# Altium footprint library IC-SMD.PCBLIB: 298 footprints (part 3 of 19)
Each footprint in its own frame and in the unit in brackets; x right, y up, seen from the top. Pads: shape width x height; smd on the part's side, far side on the other; paste and mask are expansions set on the pad; w line width, h text height; cw(c..) or ccw(c..) is an arc to the next point about the centre after c.
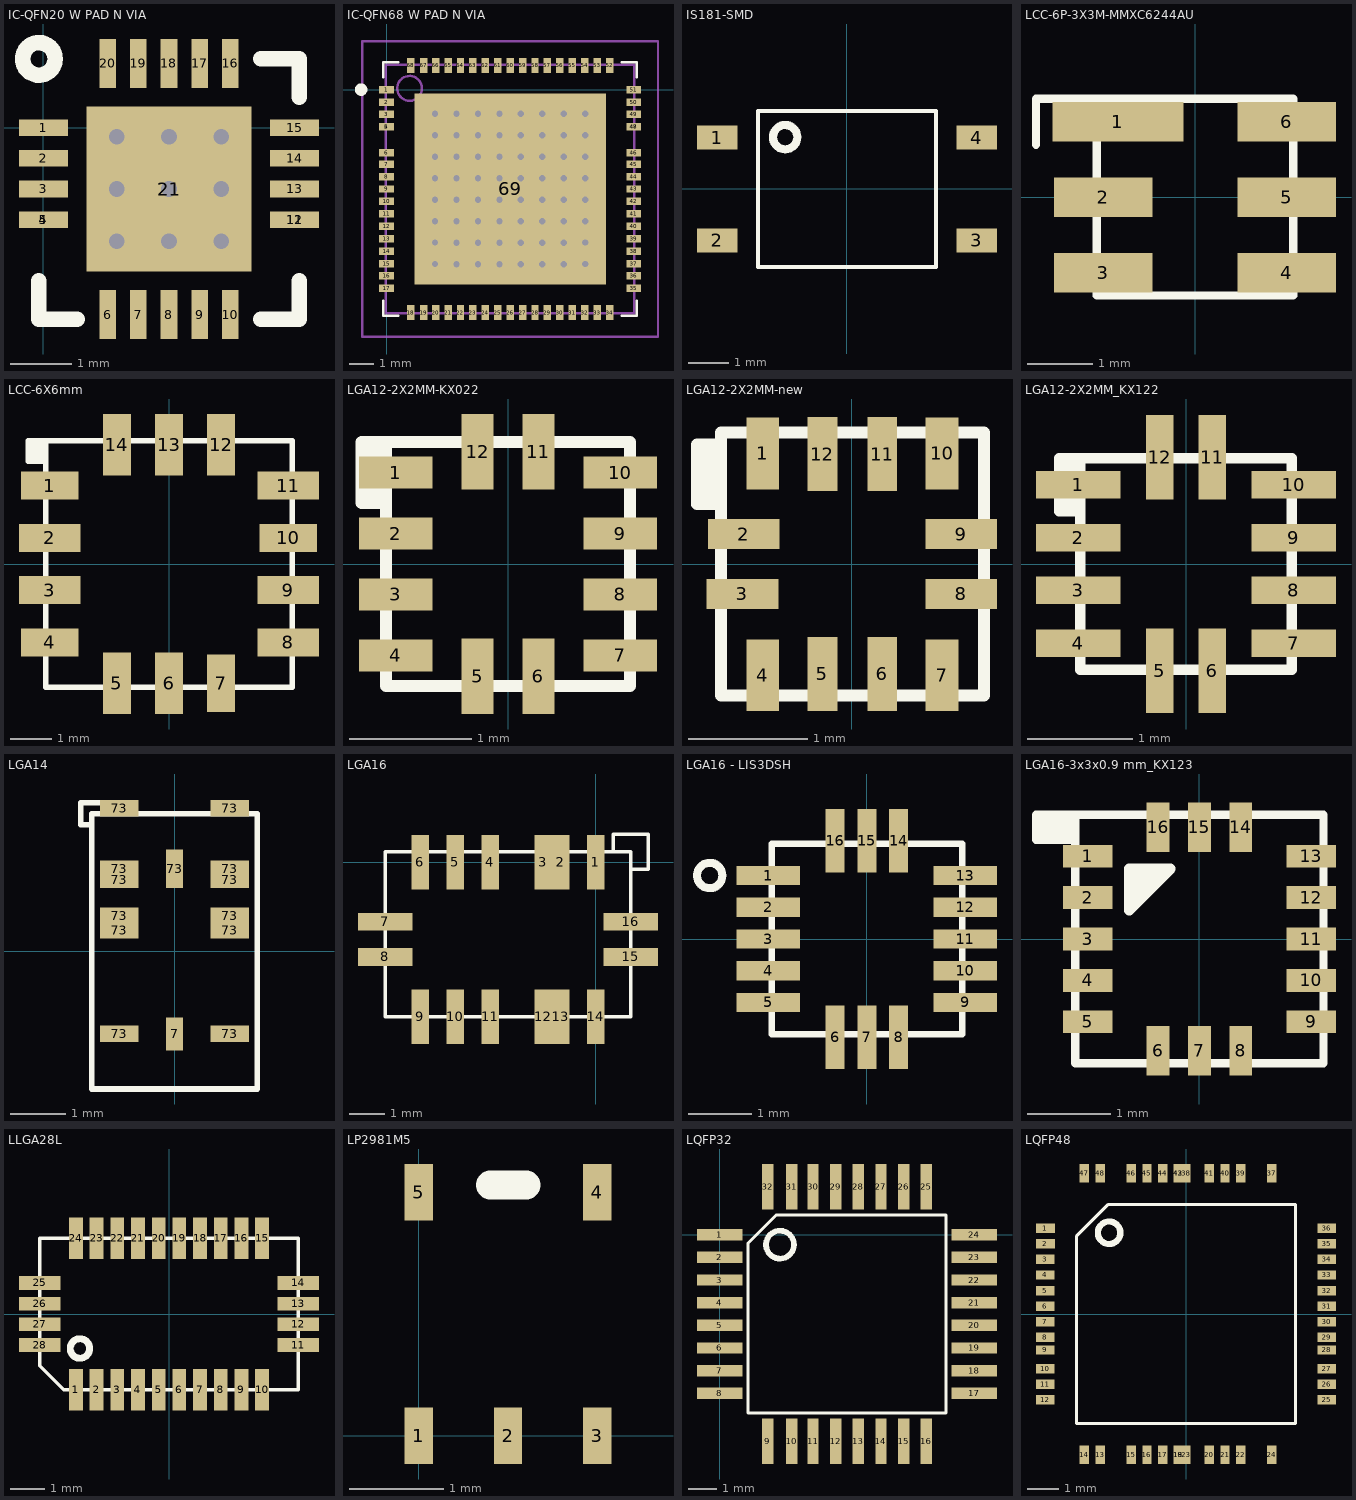
[diagram p2: the footprints below, top view; thin cyan lines are the x and y axes]

## IC-QFN20 W PAD N VIA [mm]
pads (21):
  rect 0.8x0.27 smd: 1(0,0) 2(0,-0.5) 3(0,-1) 4(0,-1.5) 5(0,-1.5) 11(4.1,-1.5) 12(4.1,-1.5) 13(4.1,-1) 14(4.1,-0.5) 15(4.1,0)
  rect 0.27x0.8 smd: 6(1.05,-3.05) 7(1.55,-3.05) 8(2.05,-3.05) 9(2.55,-3.05) 10(3.05,-3.05) 16(3.05,1.05) 17(2.55,1.05) 18(2.05,1.05) 19(1.55,1.05) 20(1.05,1.05)
  rect 2.7x2.7 smd: 21(2.05,-1)
via 2.9,-1.85 diameter 0.508 hole 0.254
via 2.05,-1.85 diameter 0.508 hole 0.254
via 1.2,-1.85 diameter 0.508 hole 0.254
via 2.9,-1 diameter 0.508 hole 0.254
via 2.05,-1 diameter 0.508 hole 0.254
via 1.2,-1 diameter 0.508 hole 0.254
via 2.9,-0.15 diameter 0.508 hole 0.254
via 2.05,-0.15 diameter 0.508 hole 0.254
via 1.2,-0.15 diameter 0.508 hole 0.254
TopOverlay:
  circle w0.254: c-0.075,1.125 r0.266
  lines w0.254: -0.075,-2.5 -0.075,-3.125 0.55,-3.125 ; 3.55,-3.125 4.175,-3.125 4.175,-2.5 ; 3.55,1.125 4.175,1.125 4.175,0.5

## IC-QFN68 W PAD N VIA [mm]
pads (69):
  rect 0.6x0.3 smd: 1(0,0) 2(0,-0.5) 3(0,-1) 4(0,-1.5) 5(0,-1.5) 6(0,-2.55) 7(0,-3) 8(0,-3.5) 9(0,-4) 10(0,-4.5) 11(0,-5) 12(0,-5.5) 13(0,-6) 14(0,-6.5) 15(0,-7) 16(0,-7.5) 17(0,-8) 35(9.95,-8) 36(9.95,-7.5) 37(9.95,-7) 38(9.95,-6.5) 39(9.95,-6) 40(9.95,-5.5) 41(9.95,-5) 42(9.95,-4.5) 43(9.95,-4) 44(9.95,-3.5) 45(9.95,-3) 46(9.95,-2.55) 47(9.95,-1.5) 48(9.95,-1.5) 49(9.95,-1) 50(9.95,-0.5) 51(9.95,0)
  rect 0.3x0.6 smd: 18(0.975,-8.975) 19(1.5,-8.975) 20(1.975,-8.975) 21(2.475,-8.975) 22(2.975,-8.975) 23(3.475,-8.975) 24(3.975,-8.975) 25(4.475,-8.975) 26(4.975,-8.975) 27(5.475,-8.975) 28(5.975,-8.975) 29(6.475,-8.975) 30(6.975,-8.975) 31(7.475,-8.975) 32(7.975,-8.975) 33(8.475,-8.975) 34(8.975,-8.975) 52(8.975,0.975) 53(8.475,0.975) 54(7.975,0.975) 55(7.475,0.975) 56(6.975,0.975) 57(6.475,0.975) 58(5.975,0.975) 59(5.475,0.975) 60(4.975,0.975) 61(4.475,0.975) 62(3.975,0.975) 63(3.475,0.975) 64(2.975,0.975) 65(2.475,0.975) 66(1.975,0.975) 67(1.5,0.975) 68(0.975,0.975)
  rect 7.7x7.7 smd: 69(4.975,-4)
via 8,-4.429 diameter 0.508 hole 0.254
via 7.134,-4.432 diameter 0.508 hole 0.254
via 6.27,-4.432 diameter 0.508 hole 0.254
via 5.407,-4.432 diameter 0.508 hole 0.254
via 3.68,-4.432 diameter 0.508 hole 0.254
via 2.816,-4.432 diameter 0.508 hole 0.254
via 1.95,-4.429 diameter 0.508 hole 0.254
via 4.543,-4.432 diameter 0.508 hole 0.254
via 4.543,-5.295 diameter 0.508 hole 0.254
via 1.95,-5.293 diameter 0.508 hole 0.254
via 2.816,-5.295 diameter 0.508 hole 0.254
via 3.68,-5.295 diameter 0.508 hole 0.254
via 5.407,-5.295 diameter 0.508 hole 0.254
via 6.27,-5.295 diameter 0.508 hole 0.254
via 7.134,-5.295 diameter 0.508 hole 0.254
via 8,-5.293 diameter 0.508 hole 0.254
via 8,-7.02 diameter 0.508 hole 0.254
via 7.134,-7.023 diameter 0.508 hole 0.254
via 6.27,-7.023 diameter 0.508 hole 0.254
via 5.407,-7.023 diameter 0.508 hole 0.254
via 3.68,-7.023 diameter 0.508 hole 0.254
via 2.816,-7.023 diameter 0.508 hole 0.254
via 1.95,-7.02 diameter 0.508 hole 0.254
via 4.543,-7.023 diameter 0.508 hole 0.254
via 4.543,-6.159 diameter 0.508 hole 0.254
via 1.95,-6.156 diameter 0.508 hole 0.254
via 2.816,-6.159 diameter 0.508 hole 0.254
via 3.68,-6.159 diameter 0.508 hole 0.254
via 5.407,-6.159 diameter 0.508 hole 0.254
via 6.27,-6.159 diameter 0.508 hole 0.254
via 7.134,-6.159 diameter 0.508 hole 0.254
via 8,-6.156 diameter 0.508 hole 0.254
via 8,-2.702 diameter 0.508 hole 0.254
via 7.134,-2.705 diameter 0.508 hole 0.254
via 6.27,-2.705 diameter 0.508 hole 0.254
via 5.407,-2.705 diameter 0.508 hole 0.254
via 3.68,-2.705 diameter 0.508 hole 0.254
via 2.816,-2.705 diameter 0.508 hole 0.254
via 1.95,-2.702 diameter 0.508 hole 0.254
via 4.543,-2.705 diameter 0.508 hole 0.254
via 4.543,-3.568 diameter 0.508 hole 0.254
via 1.95,-3.565 diameter 0.508 hole 0.254
via 2.816,-3.568 diameter 0.508 hole 0.254
via 3.68,-3.568 diameter 0.508 hole 0.254
via 5.407,-3.568 diameter 0.508 hole 0.254
via 6.27,-3.568 diameter 0.508 hole 0.254
via 7.134,-3.568 diameter 0.508 hole 0.254
via 8,-3.565 diameter 0.508 hole 0.254
via 8,-1.838 diameter 0.508 hole 0.254
via 7.134,-1.841 diameter 0.508 hole 0.254
via 6.27,-1.841 diameter 0.508 hole 0.254
via 5.407,-1.841 diameter 0.508 hole 0.254
via 3.68,-1.841 diameter 0.508 hole 0.254
via 2.816,-1.841 diameter 0.508 hole 0.254
via 1.95,-1.838 diameter 0.508 hole 0.254
via 4.543,-1.841 diameter 0.508 hole 0.254
via 4.543,-0.977 diameter 0.508 hole 0.254
via 1.95,-0.975 diameter 0.508 hole 0.254
via 2.816,-0.977 diameter 0.508 hole 0.254
via 3.68,-0.977 diameter 0.508 hole 0.254
via 5.407,-0.977 diameter 0.508 hole 0.254
via 6.27,-0.977 diameter 0.508 hole 0.254
via 7.134,-0.977 diameter 0.508 hole 0.254
via 8,-0.975 diameter 0.508 hole 0.254
TopOverlay:
  circle w0.25: c-1.025,0 r0.125
  lines w0.1: -0.125,-8.5 -0.125,-9.1 0.475,-9.1 ; -0.125,0.5 -0.125,1.1 0.475,1.1 ; 9.475,-9.1 10.075,-9.1 10.075,-8.5 ; 9.475,1.1 10.075,1.1 10.075,0.5
TopPaste:
  rectangle: 5.112,-3.862 6.762,-2.213
  rectangle: 5.112,-1.937 6.762,-0.288
  rectangle: 7.037,-3.862 8.687,-2.213
  rectangle: 7.037,-1.937 8.687,-0.288
  rectangle: 3.187,-1.937 4.837,-0.288
  rectangle: 3.187,-3.862 4.837,-2.213
  rectangle: 1.262,-1.937 2.912,-0.288
  rectangle: 1.262,-3.862 2.912,-2.213
  rectangle: 1.262,-7.712 2.912,-6.062
  rectangle: 1.262,-5.787 2.912,-4.137
  rectangle: 3.187,-7.712 4.837,-6.062
  rectangle: 3.187,-5.787 4.837,-4.137
  rectangle: 7.037,-5.787 8.687,-4.137
  rectangle: 7.037,-7.712 8.687,-6.062
  rectangle: 5.112,-5.787 6.762,-4.137
  rectangle: 5.112,-7.712 6.762,-6.062
Mechanical13:
  circle w0.1: c0.925,0.05 r0.5
  lines w0.1: -0.025,-9 -0.025,1 9.975,1 9.975,-9 -0.025,-9
Mechanical15:
  lines w0.1: 4.475,-4 5.475,-4 ; 4.975,-4.5 4.975,-3.5 ; -0.975,-9.95 -0.975,1.95 10.925,1.95 10.925,-9.95 -0.975,-9.95

## IS181-SMD [mm] "IS181-SMD"
pads (4):
  rect 1x0.6 smd: 1(-3.2,1.27) 2(-3.2,-1.27) 3(3.2,-1.27) 4(3.2,1.27)
TopOverlay:
  lines w0.1: -2.2,-1.925 -2.2,1.925 2.2,1.925 2.2,-1.925 -2.2,-1.925
  lines w0.2: -1.825,1.275 ccw(c-1.525,1.279) -1.825,1.283

## LCC-6P-3X3M-MMXC6244AU [mm] "LCC-6P-3X3M-MMXC6244AU"
pads (6):
  rect 2x0.6 smd mask+0.05: 1(-1.175,1.15)
  rect 1.5x0.6 smd mask+0.05: 2(-1.4,0) 3(-1.4,-1.15) 4(1.4,-1.15) 5(1.4,0) 6(1.4,1.15)
TopOverlay:
  lines w0.127: -2.425,0.8 -2.425,1.5 -1.5,1.5 ; -1.5,1.5 -1.5,-1.5 1.5,-1.5 1.5,1.5 -1.5,1.5

## LCC-6X6mm [mm] "LCC-6X6mm"
pads (14):
  rect 1.4x0.68 smd: 1(-2.9,1.905) 4(-2.9,-1.905) 10(2.9,0.635)
  rect 1.5x0.68 smd: 2(-2.9,0.635) 3(-2.9,-0.635) 8(2.9,-1.905) 9(2.9,-0.635) 11(2.9,1.905)
  rect 0.68x1.5 smd: 5(-1.27,-2.9) 6(0,-2.9) 12(1.27,2.9) 13(0,2.9) 14(-1.27,2.9)
  rect 0.68x1.4 smd: 7(1.27,-2.9)
TopOverlay:
  rectangle: -3.4,2.5 -3.2,3
  rectangle: -3.175,2.5 -2.975,3
  lines w0.127: -3.225,2.5 -3.425,2.5 -3.425,3 -3.225,3 ; -3,2.5 -3.2,2.5 -3.2,3 -3,3 ; -3,3 -3,-3 3,-3 3,3 -3,3

## LGA12-2X2MM-KX022 [mm] "LGA12-2X2MM-KX022"
pads (12):
  rect 0.6x0.26 smd: 1(-0.92,0.75) 2(-0.92,0.25) 3(-0.92,-0.25) 4(-0.92,-0.75) 7(0.92,-0.75) 8(0.92,-0.25) 9(0.92,0.25) 10(0.92,0.75)
  rect 0.26x0.62 smd: 5(-0.25,-0.92) 6(0.25,-0.92) 11(0.25,0.92) 12(-0.25,0.92)
TopOverlay:
  rectangle: -1.175,0.5 -0.975,1
  lines w0.1: -1,0.5 -1.2,0.5 -1.2,1 -1,1 ; -1,1 -1,-1 1,-1 1,1 -1,1

## LGA12-2X2MM-new [mm] "LGA12-2X2MM-new"
pads (12):
  rect 0.275x0.6 smd: 1(-0.745,0.928) 4(-0.745,-0.927) 7(0.755,-0.927) 10(0.755,0.928)
  rect 0.6x0.25 smd: 2(-0.905,0.253) 3(-0.915,-0.247) 8(0.915,-0.247) 9(0.915,0.253)
  rect 0.25x0.62 smd: 5(-0.245,-0.917) 6(0.255,-0.917) 11(0.255,0.923) 12(-0.245,0.923)
TopOverlay:
  rectangle: -1.27,0.502 -1.07,1.002
  lines w0.1: -1.095,0.503 -1.295,0.503 -1.295,1.003 -1.095,1.003 ; -1.095,-1.097 -1.095,1.103 1.105,1.103 1.105,-1.097 -1.095,-1.097

## LGA12-2X2MM_KX122 [mm] "LGA12-2X2MM_KX122"
pads (12):
  rect 0.8x0.26 smd: 1(-1.02,0.75) 2(-1.02,0.25) 3(-1.02,-0.25) 4(-1.02,-0.75) 7(1.02,-0.75) 8(1.02,-0.25) 9(1.02,0.25) 10(1.02,0.75)
  rect 0.26x0.8 smd: 5(-0.25,-1.01) 6(0.25,-1.01) 11(0.25,1.01) 12(-0.25,1.01)
TopOverlay:
  rectangle: -1.175,0.5 -0.975,1
  lines w0.1: -1,0.5 -1.2,0.5 -1.2,1 -1,1 ; -1,1 1,1 1,-1 -1,-1 -1,1

## LGA14 [mm]
pads (14):
  rect 0.3x0.6 smd: 7(0,-1.5)
  rect 0.7x0.3 smd: 73(-1,-1.5) 73(-1,0.385) 73(-1,0.65) 73(-1,1.3) 73(-1,1.5) 73(-1,2.6) 73(1,-1.5) 73(1,0.385) 73(1,0.65) 73(1,1.3) 73(1,1.5) 73(1,2.6)
  rect 0.3x0.7 smd: 73(0,1.5)
TopOverlay:
  lines w0.1: -1.5,2.3 -1.7,2.3 -1.7,2.7 -1.4,2.7 -1.2,2.7 -1.2,2.5 ; -1.5,-2.5 -1.5,2.5 1.5,2.5 1.5,-2.5 -1.5,-2.5

## LGA16 [mm]
pads (16):
  rect 0.5x1.55 smd: 1(0,0) 2(-1,0) 3(-1.5,0) 4(-3,0) 5(-4,0) 6(-5,0) 9(-5,-4.4) 10(-4,-4.4) 11(-3,-4.4) 12(-1.5,-4.4) 13(-1,-4.4) 14(0,-4.4)
  rect 1.55x0.5 smd: 7(-6,-1.7) 8(-6,-2.7) 15(1,-2.7) 16(1,-1.7)
TopOverlay:
  lines w0.1: 0.5,0.3 0.5,0.8 1.5,0.8 1.5,-0.2 1,-0.2 ; -6,-4.4 1,-4.4 1,0.3 -6,0.3 -6,-4.4

## LGA16 - LIS3DSH [mm] "LGA16 - LIS3DSH"
pads (16):
  rect 1x0.3 smd: 1(-1.55,1) 2(-1.55,0.5) 3(-1.55,0) 4(-1.55,-0.5) 5(-1.55,-1) 9(1.55,-1) 10(1.55,-0.5) 11(1.55,0) 12(1.55,0.5) 13(1.55,1)
  rect 0.3x1 smd: 6(-0.5,-1.55) 7(0,-1.55) 8(0.5,-1.55) 14(0.5,1.55) 15(0,1.55) 16(-0.5,1.55)
TopOverlay:
  circle w0.127: c-2.475,1 r0.2
  lines w0.1: -1.5,-1.5 1.5,-1.5 1.5,1.5 -1.5,1.5 -1.5,-1.5

## LGA16-3x3x0.9 mm_KX123 [mm] "LGA16-3x3x0.9 mm_KX123"
pads (16):
  rect 0.6x0.275 smd: 1(-1.35,1) 2(-1.35,0.5) 3(-1.35,0) 4(-1.35,-0.5) 5(-1.35,-1) 9(1.35,-1) 10(1.35,-0.5) 11(1.35,0) 12(1.35,0.5) 13(1.35,1)
  rect 0.275x0.6 smd: 6(-0.5,-1.35) 7(0,-1.35) 8(0.5,-1.35) 14(0.5,1.35) 15(0,1.35) 16(-0.5,1.35)
TopOverlay:
  rectangle: -1.975,1.25 -1.5,1.5
  rectangle: -0.85,0.625 -0.575,0.85
  lines w0.1: -1.5,1.2 -1.975,1.2 -1.975,1.5 -1.5,1.5 ; -1.5,1.5 -1.5,-1.5 1.5,-1.5 1.5,1.5 -1.5,1.5
  lines w0.127: -0.85,0.35 -0.85,0.5 -0.5,0.85 -0.35,0.85 ; -0.85,0.35 -0.35,0.85 ; -0.85,0.35 -0.85,0.85 -0.35,0.85

## LLGA28L [mm]
pads (28):
  rect 0.4x1.2 smd: 1(-2.7,-2.2) 2(-2.1,-2.2) 3(-1.5,-2.2) 4(-0.9,-2.2) 5(-0.3,-2.2) 6(0.3,-2.2) 7(0.9,-2.2) 8(1.5,-2.2) 9(2.1,-2.2) 10(2.7,-2.2) 15(2.7,2.2) 16(2.1,2.2) 17(1.5,2.2) 18(0.9,2.2) 19(0.3,2.2) 20(-0.3,2.2) 21(-0.9,2.2) 22(-1.5,2.2) 23(-2.1,2.2) 24(-2.7,2.2)
  rect 1.2x0.4 smd: 11(3.75,-0.9) 12(3.75,-0.3) 13(3.75,0.3) 14(3.75,0.9) 25(-3.75,0.9) 26(-3.75,0.3) 27(-3.75,-0.3) 28(-3.75,-0.9)
TopOverlay:
  circle w0.2: c-2.583,-1 r0.283
  lines w0.1: -3.75,-1.5 -3.75,2.2 3.75,2.2 3.75,-2.2 -3.05,-2.2 -3.75,-1.5

## LP2981M5 [mm]
pads (5):
  rect 0.3x0.6 smd: 1(0,0) 2(0.95,0) 3(1.9,0) 4(1.9,2.59) 5(0,2.59)
TopOverlay:
  lines w0.305: 0.762,2.667 1.143,2.667

## LQFP32 [mm]
pads (32):
  rect 1.6x0.4 smd: 1(0,0) 2(0,-0.8) 3(0,-1.6) 4(0,-2.4) 5(0,-3.2) 6(0,-4) 7(0,-4.8) 8(0,-5.6) 17(9,-5.6) 18(9,-4.8) 19(9,-4) 20(9,-3.2) 21(9,-2.4) 22(9,-1.6) 23(9,-0.8) 24(9,0)
  rect 0.4x1.6 smd: 9(1.7,-7.3) 10(2.55,-7.3) 11(3.3,-7.3) 12(4.1,-7.3) 13(4.9,-7.3) 14(5.7,-7.3) 15(6.5,-7.3) 16(7.3,-7.3) 25(7.3,1.7) 26(6.5,1.7) 27(5.7,1.7) 28(4.9,1.7) 29(4.1,1.7) 30(3.3,1.7) 31(2.55,1.7) 32(1.7,1.7)
TopOverlay:
  circle w0.2: c2.132,-0.35 r0.493
  lines w0.1: 1,-6.3 8,-6.3 8,0.7 2,0.7 1,-0.3 1,-6.3

## LQFP48 [mm]
pads (48):
  rect 0.6x0.3 smd: 1(-4.5,2.75) 2(-4.5,2.25) 3(-4.5,1.75) 4(-4.5,1.25) 5(-4.5,0.75) 6(-4.5,0.25) 7(-4.5,-0.25) 8(-4.5,-0.75) 9(-4.5,-1.15) 10(-4.5,-1.75) 11(-4.5,-2.25) 12(-4.5,-2.75) 25(4.5,-2.75) 26(4.5,-2.25) 27(4.5,-1.75) 28(4.5,-1.15) 29(4.5,-0.75) 30(4.5,-0.25) 31(4.5,0.25) 32(4.5,0.75) 33(4.5,1.25) 34(4.5,1.75) 35(4.5,2.25) 36(4.5,2.75)
  rect 0.3x0.6 smd: 13(-2.75,-4.5) 14(-3.25,-4.5) 15(-1.75,-4.5) 16(-1.25,-4.5) 17(-0.75,-4.5) 18(-0.25,-4.5) 19(-0.25,-4.5) 20(0.75,-4.5) 21(1.25,-4.5) 22(1.75,-4.5) 23(0,-4.5) 24(2.75,-4.5) 37(2.75,4.5) 38(0,4.5) 39(1.75,4.5) 40(1.25,4.5) 41(0.75,4.5) 42(-0.25,4.5) 43(-0.25,4.5) 44(-0.75,4.5) 45(-1.25,4.5) 46(-1.75,4.5) 47(-3.25,4.5) 48(-2.75,4.5)
TopOverlay:
  circle w0.2: c-2.461,2.6 r0.361
  lines w0.1: -3.5,-3.5 -3.5,2.5 -2.5,3.5 3.5,3.5 3.5,-3.5 -3.5,-3.5